# Altium footprint library SOD3715X135N.PcbLib: 1 footprints
Each footprint in its own frame and in the unit in brackets; x right, y up, seen from the top. Pads: shape width x height; smd on the part's side, far side on the other; paste and mask are expansions set on the pad; w line width, h text height; cw(c..) or ccw(c..) is an arc to the next point about the centre after c.
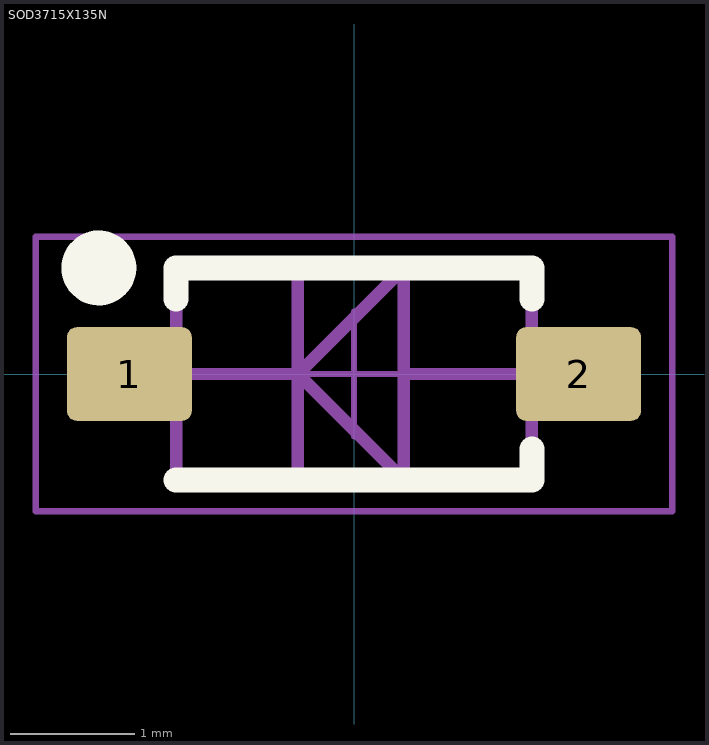
[diagram p0: the footprint, top view; thin cyan lines are the x and y axes]

## SOD3715X135N [mm]
height 1.35
pads (2):
  rrect20% 1x0.75 smd: 1(-1.8,0) 2(1.8,0)
Top Overlay:
  circle w0.3: c-2.045,0.85 r0.15
  lines w0.2: -1.425,-0.85 1.425,-0.85 1.425,-0.6 ; -1.425,0.6 -1.425,0.85 1.2,0.85 1.425,0.85 1.425,0.6
Top Assembly:
  lines w0.05: 1.425,0 1.425,0
  lines w0.1: -1.425,-0.3 -1.45,-0.275 -1.925,-0.275 -1.924,0.275 -1.45,0.275 -1.425,0.25 ; -1.425,0 -0.45,0 ; -0.45,-0.85 -0.45,0 ; -0.45,0.85 -0.45,0 ; 0.4,0 1.425,0 ; 0.45,-0.85 0.4,-0.8 0.4,0.85 -0.45,0 ; 1.45,-0.275 1.925,-0.275 1.924,0.275 1.45,0.275 ; -0.45,0 0.4,-0.85 ; -0.45,0 -0.45,0 ; 0.4,-0.85 0.4,-0.85 ; 1.425,0 1.425,0 ; -1.425,-0.85 1.425,-0.85 1.425,0.85 -1.425,0.85 -1.425,-0.85
Top Courtyard:
  lines w0.05: -2.55,-1.1 -2.55,1.1 2.55,1.1 2.55,-1.1 -2.55,-1.1
Top Designator:
  text ".Designator" at -1.5,-2.5 h1
Top Component Center:
  lines w0.05: -0.5,0 0.5,0 ; 0,-0.5 0,0.5
3D body "SOD3716X135.STEP": height 1.35, standoff 0, extent -1.855,-0.8 1.855,0.8